# EAGLE library part MKL02Z32VFG4 (library SamacSys_Parts)
NXP MKL02Z32VFG4, 32bit ARM Cortex M0 Microcontroller, 48MHz, 32 kB Flash, 16-Pin QFN Source: Datasheet <http://www.nxp.com/docs/en/data-sheet/KL02P32M48SF0.pdf>
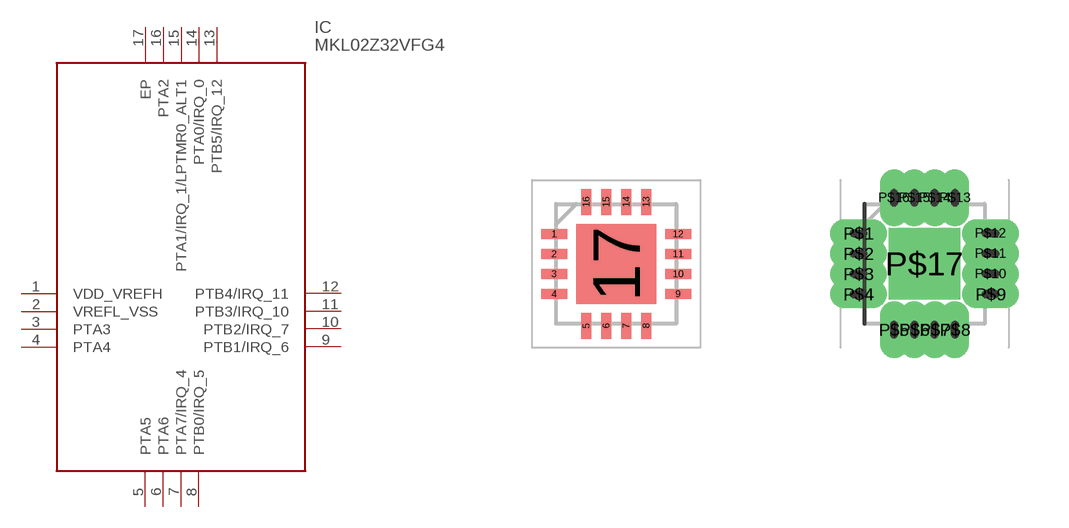
[diagram p240: symbol with the pads of QFN50P300X300X65-17N; footprints QFN50P300X300X65-17N, QFN16-HOLES]

Designator prefix IC

## MKL02Z32VFG4 (DESCRIPTION: NXP MKL02Z32VFG4, 32bit ARM Cortex M0 Microcontroller, 48MHz, 32 kB Flash, 16-Pin QFN; HEIGHT: 0.65mm; MANUFACTURER_NAME: NXP; MANUFACTURER_PART_NUMBER: MKL02Z32VFG4; MOUSER_PART_NUMBER: 841-MKL02Z32VFG4; MOUSER_PRICE-STOCK: https://www.mouser.co.uk/ProductDetail/NXP-Semiconductors/MKL02Z32VFG4?qs=RECgZY%252BK1xLpPFD7GzHxWg%3D%3D)  [QFN50P300X300X65-17N]
1  VDD_VREFH
2  VREFL_VSS
3  PTA3
4  PTA4
5  PTA5
6  PTA6
7  PTA7/IRQ_4
8  PTB0/IRQ_5
9  PTB1/IRQ_6
10  PTB2/IRQ_7
11  PTB3/IRQ_10
12  PTB4/IRQ_11
13  PTB5/IRQ_12
14  PTA0/IRQ_0
15  PTA1/IRQ_1/LPTMR0_ALT1
16  PTA2
17  EP

## MKL02Z32VFG4FLEX-HOLES  [QFN16-HOLES]
P$1  VDD_VREFH
P$2  VREFL_VSS
P$3  PTA3
P$4  PTA4
P$5  PTA5
P$6  PTA6
P$7  PTA7/IRQ_4
P$8  PTB0/IRQ_5
P$9  PTB1/IRQ_6
P$10  PTB2/IRQ_7
P$11  PTB3/IRQ_10
P$12  PTB4/IRQ_11
P$13  PTB5/IRQ_12
P$14  PTA0/IRQ_0
P$15  PTA1/IRQ_1/LPTMR0_ALT1
P$16  PTA2
P$17  EP

## Footprint QFN50P300X300X65-17N (pad centres in mm)
MKL02Z32VFG4
smd 0.65 x 0.25: 1 -1.55,0.75; 2 -1.55,0.25; 3 -1.55,-0.25; 4 -1.55,-0.75; 9 1.55,-0.75; 10 1.55,-0.25; 11 1.55,0.25; 12 1.55,0.75
smd 0.25 x 0.65: 5 -0.75,-1.55; 6 -0.25,-1.55; 7 0.25,-1.55; 8 0.75,-1.55; 13 0.75,1.55; 14 0.25,1.55; 15 -0.25,1.55; 16 -0.75,1.55
smd 2 x 2: 17 0,0

## Footprint QFN16-HOLES (pad centres in mm)
drill 0.2 pad 0.254 long: P$1 -1.651,0.762; P$2 -1.651,0.254; P$3 -1.651,-0.254; P$4 -1.651,-0.762; P$5 -0.762,-1.651; P$6 -0.254,-1.651; P$7 0.254,-1.651; P$8 0.762,-1.651; P$9 1.651,-0.762; P$10 1.651,-0.254; P$11 1.651,0.254; P$12 1.651,0.762; P$13 0.762,1.651; P$14 0.254,1.651; P$15 -0.254,1.651; P$16 -0.762,1.651
drill 0.8 pad 1.778 square: P$17 0,0